# Altium integrated library Analog Devices Data Converters Analog-to-Digital Converters.IntLib: 2400 symbols (part 323 of 338)
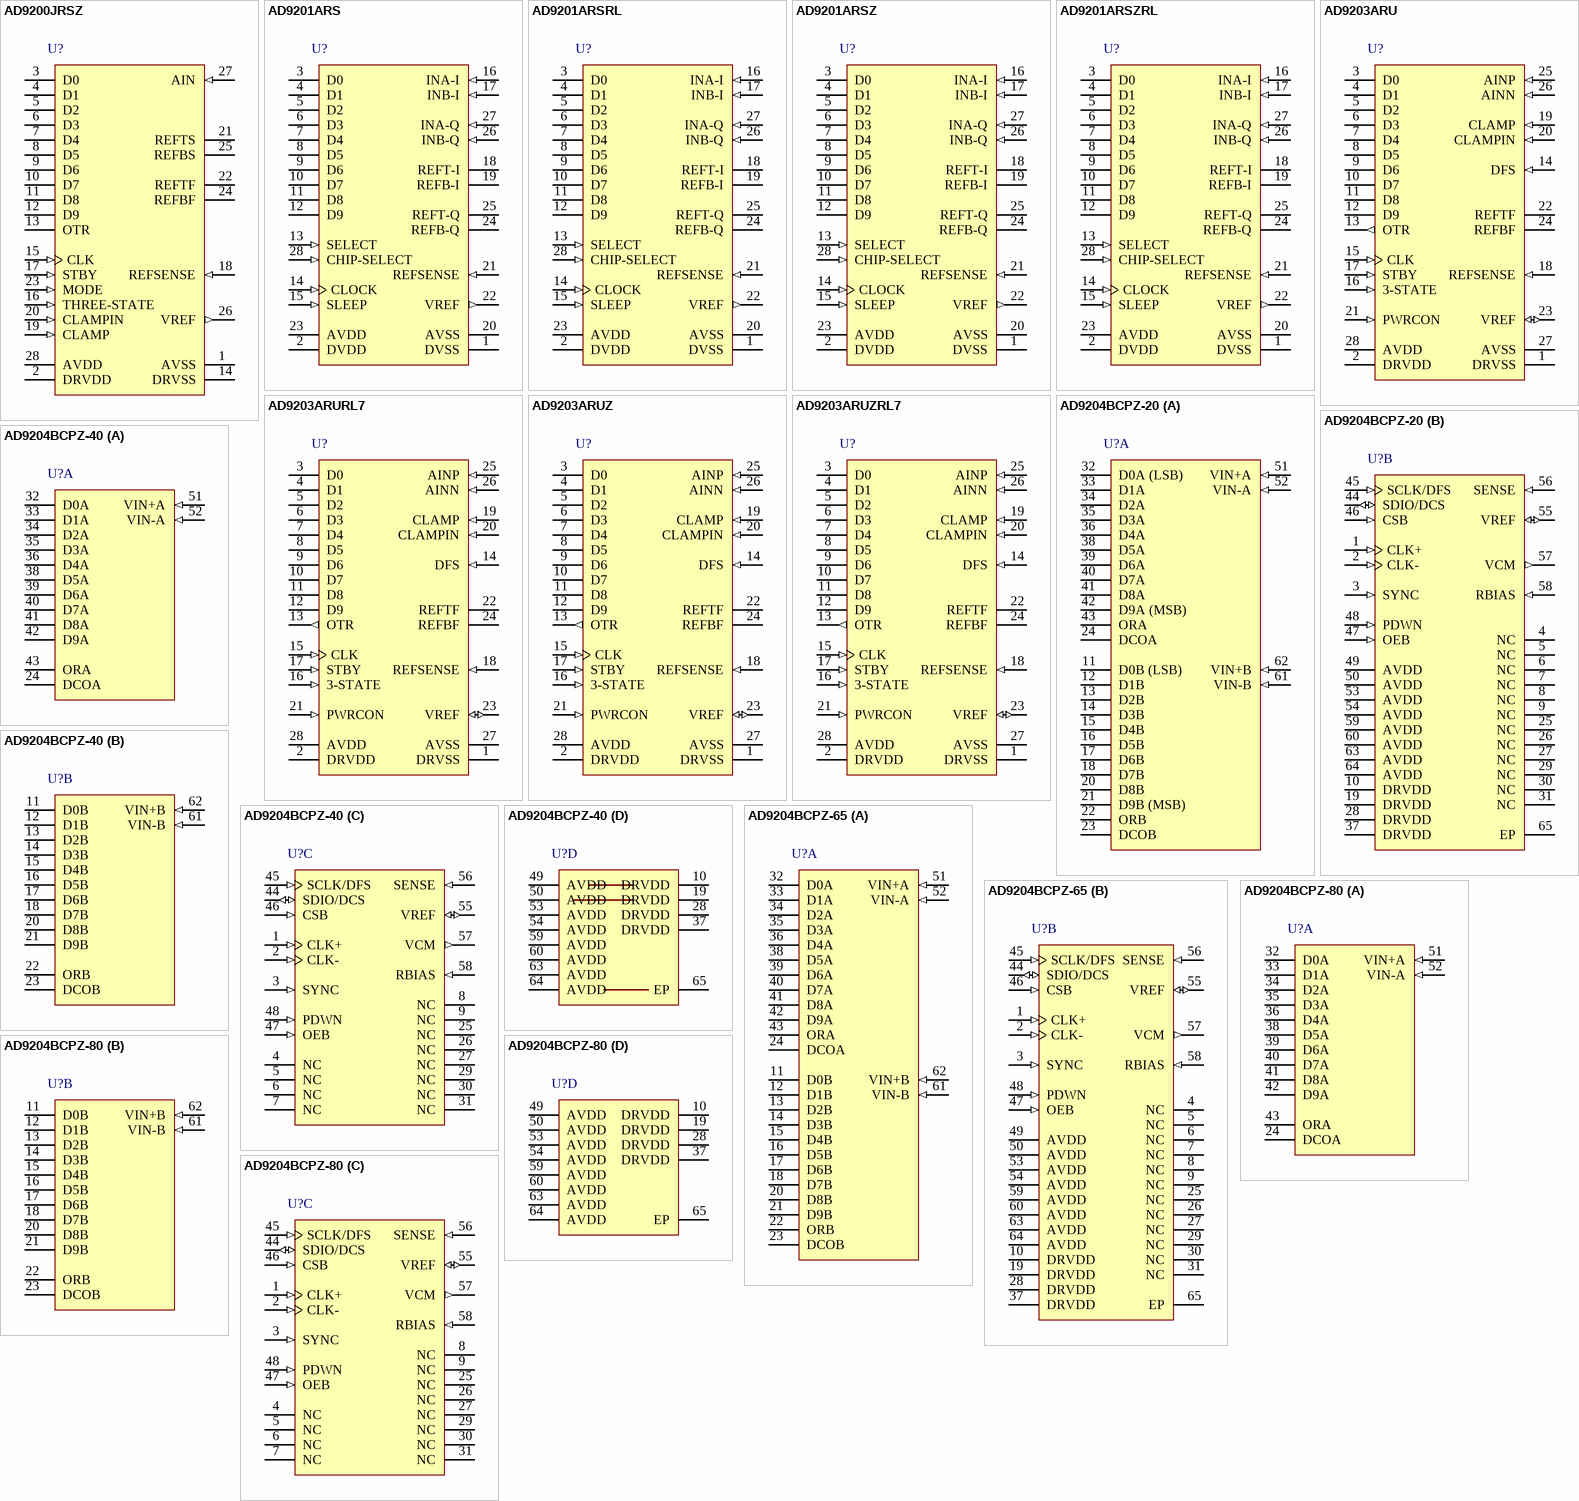
[diagram p331: symbols AD9200JRSZ to AD9204BCPZ-80]

## AD9204BCPZ-40
designator U?
Dual 10-Bit Analog-to-Digital Converter with Parallel Interface, 1.8 V, 40MSPS, -40 to +85 degC, CP-64-4, Pb-Free, Tray; Part Number: AD9204-40; Manufacturer: Analog Devices; Resolution (Bits): 10; Channels: 2; Throughput Rate (SPS): 40M; Interface: Par; DatasheetVersion: Rev.0; PackageVersion: 051007-C; PackageReference: CP-64-4; PackageDescription: 64-Lead Lead Frame Chip Scale Package [LFCSP_VQ] 9 x 9 mm Body, Very Thin Quad; RoHS: Y; Packing: Tray; Mounting Technology: Surface Mount; Code_JEDEC: MO-220-VMMD-4; ComponentLink1Description: Manufacturer URL; ComponentLink1URL: http://www.analog.com/en/index.html; ComponentLink2Description: Datasheet; ComponentLink2URL: http://www.analog.com/static/imported-files/data_sheets/AD9204.pdf; ComponentLink3Description: Package Specification; ComponentLink3URL: http://www.analog.com/static/imported-files/packages/PKG_PDF/LFCSP(CP)/CP_64_4.pdf; ComponentLink4Description: Product URL; ComponentLink4URL: http://www.analog.com/en/analog-to-digital-converters/ad-converters/ad9204/products/product.html
footprint CP-64-4_N (QFN, 64-Leads, Body 9x9mm, Pitch 0.5mm, Thermal Pad 6.2x6.2mm, IPC Medium Density)
footprint CP-64-4_L (QFN, 64-Leads, Body 9x9mm, Pitch 0.5mm, Thermal Pad 6.2x6.2mm, IPC High Density)
footprint CP-64-4_M (QFN, 64-Leads, Body 9x9mm, Pitch 0.5mm, Thermal Pad 6.2x6.2mm, IPC Low Density)
part A pins: 24 DCOA (hiz) "Channel A Data Clock Digital Output.", 32 D0A (hiz) "Channel A Digital Output", 33 D1A (hiz) "Channel A Digital Output", 34 D2A (hiz) "Channel A Digital Output.", 35 D3A (hiz) "Channel A Digital Output", 36 D4A (hiz) "Channel A Digital Output", 38 D5A (hiz) "Channel A Digital Output.", 39 D6A (hiz) "Channel A Digital Output.", 40 D7A (hiz) "Channel A Digital Output", 41 D8A (hiz) "Channel A Digital Output", 42 D9A (hiz) "Channel A Digital Output D9A = MSB.", 43 ORA (hiz) "Channel A Out-of-Range Digital Output.", 51 VIN+A (in) "Channel A Analog Inputs.", 52 VIN-A (in) "Channel A Analog Inputs."
part B pins: 11 D0B (hiz) "Channel B Digital Output.", 12 D1B (hiz) "Channel B Digital Output.", 13 D2B (hiz) "Channel B Digital Output", 14 D3B (hiz) "Channel B Digital Output.", 15 D4B (hiz) "Channel B Digital Output.", 16 D5B (hiz) "Channel B Digital Output.", 17 D6B (hiz) "Channel B Digital Output", 18 D7B (hiz) "Channel B Digital Output.", 20 D8B (hiz) "Channel B Digital Output.", 21 D9B (hiz) "Channel B Digital Output D9B = MSB.", 22 ORB (hiz) "Channel B Out-of-Range Digital Output.", 23 DCOB (hiz) "Channel B Data Clock Digital Output.", 61 VIN-B (in) "Channel B Analog Inputs.", 62 VIN+B (in) "Channel B Analog Inputs."
part C pins: 1 CLK+ (in) "Differential Encode Clock. PECL, LVDS, or 1.8 V CMOS inputs.", 2 CLK- (in) "Differential Encode Clock. PECL, LVDS, or 1.8 V CMOS inputs.", 3 SYNC (in) "Digital Input. SYNC input to clock divider. 30 kohm internal pull-down.", 4 NC "Do Not Connect.", 5 NC "Do Not Connect.", 6 NC "Do Not Connect.", 7 NC "Do Not Connect.", 8 NC "Do Not Connect.", 9 NC "Do Not Connect.", 25 NC "Do Not Connect.", 26 NC "Do Not Connect.", 27 NC "Do Not Connect.", 29 NC "Do Not Connect.", 30 NC "Do Not Connect.", 31 NC "Do Not Connect.", 44 SDIO/DCS (io) "SPI Data Input/Output (SDIO). Bidirectional SPI Data I/O in SPI mode. 30 k ohm internal pull-down in SPI mode.Duty Cycle Stabilizer (DCS). Static enable input for duty cycle stabilizer in non-SPI mode. 30 k ohm internal pull-up in (See Datasheet)", 45 SCLK/DFS (in) "SPI Clock (SCLK) Input in SPI mode. 30 k ohm internal pull-down.Data Format Select (DFS). Static control of data output format in non-SPI mode. 30 k ohm internal pull-down. DFS high = twos complement output. DFS low = offset (See Datasheet)", 46 CSB (in) "SPI Chip Select. Active low enable; 30 kohm internal pull-up.", 47 OEB (in) "Digital Input. Enable Channel A and Channel B digital outputs if low, three-state outputs if high. 30 k ohm internal pull-down.", 48 PDWN (in) "Digital Input. 30 k ohm internal pull-down.PDWN high = power-down device.PDWN low = run device, normal operation.", 55 VREF (io) "Voltage Reference Input/Output.", 56 SENSE (in) "Reference Mode Selection.", 57 VCM (out) "Analog output voltage at midsupply to set common mode of the analog inputs.", 58 RBIAS (in) "Sets Analog Current Bias. Connect to 10 k ohm (1% tolerance) resistor to ground."
part D pins: 10 DRVDD (power) "Digital Output Driver Supply (1.8 V to 3.3 V).", 19 DRVDD (power) "Digital Output Driver Supply (1.8 V to 3.3 V).", 28 DRVDD (power) "Digital Output Driver Supply (1.8 V to 3.3 V).", 37 DRVDD (power) "Digital Output Driver Supply (1.8 V to 3.3 V).", 49 AVDD (power) "1.8 V Analog Supply Pins.", 50 AVDD (power) "1.8 V Analog Supply Pins.", 53 AVDD (power) "1.8 V Analog Supply Pins.", 54 AVDD (power) "1.8 V Analog Supply Pins.", 59 AVDD (power) "1.8 V Analog Supply Pins.", 60 AVDD (power) "1.8 V Analog Supply Pins.", 63 AVDD (power) "1.8 V Analog Supply Pins.", 64 AVDD (power) "1.8 V Analog Supply Pins.", 65 EP (power) "Exposed paddle is the only ground connection for the chip. Must be connected to PCB AGND."

## AD9204BCPZ-65
designator U?
Dual 10-Bit Analog-to-Digital Converter with Parallel Interface, 1.8 V, 65MSPS, -40 to +85 degC, CP-64-4, Pb-Free, Tray; Part Number: AD9204-65; Manufacturer: Analog Devices; Resolution (Bits): 10; Channels: 2; Throughput Rate (SPS): 65M; Interface: Par; DatasheetVersion: Rev.0; PackageVersion: 051007-C; PackageReference: CP-64-4; PackageDescription: 64-Lead Lead Frame Chip Scale Package [LFCSP_VQ] 9 x 9 mm Body, Very Thin Quad; RoHS: Y; Packing: Tray; Mounting Technology: Surface Mount; Code_JEDEC: MO-220-VMMD-4; ComponentLink1Description: Manufacturer URL; ComponentLink1URL: http://www.analog.com/en/index.html; ComponentLink2Description: Datasheet; ComponentLink2URL: http://www.analog.com/static/imported-files/data_sheets/AD9204.pdf; ComponentLink3Description: Package Specification; ComponentLink3URL: http://www.analog.com/static/imported-files/packages/PKG_PDF/LFCSP(CP)/CP_64_4.pdf; ComponentLink4Description: Product URL; ComponentLink4URL: http://www.analog.com/en/analog-to-digital-converters/ad-converters/ad9204/products/product.html
footprint CP-64-4_N (QFN, 64-Leads, Body 9x9mm, Pitch 0.5mm, Thermal Pad 6.2x6.2mm, IPC Medium Density)
footprint CP-64-4_L (QFN, 64-Leads, Body 9x9mm, Pitch 0.5mm, Thermal Pad 6.2x6.2mm, IPC High Density)
footprint CP-64-4_M (QFN, 64-Leads, Body 9x9mm, Pitch 0.5mm, Thermal Pad 6.2x6.2mm, IPC Low Density)
part A pins: 11 D0B (hiz) "Channel B Digital Outputs.", 12 D1B (hiz) "Channel B Digital Outputs.", 13 D2B (hiz) "Channel B Digital Outputs.", 14 D3B (hiz) "Channel B Digital Outputs.", 15 D4B (hiz) "Channel B Digital Outputs.", 16 D5B (hiz) "Channel B Digital Outputs.", 17 D6B (hiz) "Channel B Digital Outputs.", 18 D7B (hiz) "Channel B Digital Outputs.", 20 D8B (hiz) "Channel B Digital Outputs.", 21 D9B (hiz) "Channel B Digital Outputs. D9B = MSB.", 22 ORB (hiz) "Channel B Out-of-Range Digital Output.", 23 DCOB (hiz) "Channel B Data Clock Digital Output.", 24 DCOA (hiz) "Channel A Data Clock Digital Output.", 32 D0A (hiz) "Channel A Digital Outputs.", 33 D1A (hiz) "Channel A Digital Outputs.", 34 D2A (hiz) "Channel A Digital Outputs.", 35 D3A (hiz) "Channel A Digital Outputs.", 36 D4A (hiz) "Channel A Digital Outputs.", 38 D5A (hiz) "Channel A Digital Outputs.", 39 D6A (hiz) "Channel A Digital Outputs.", 40 D7A (hiz) "Channel A Digital Outputs.", 41 D8A (hiz) "Channel A Digital Outputs.", 42 D9A (hiz) "Channel A Digital Outputs. D9A = MSB.", 43 ORA (hiz) "Channel A Out-of-Range Digital Output.", 51 VIN+A (in) "Channel A Analog Inputs.", 52 VIN-A (in) "Channel A Analog Inputs.", 61 VIN-B (in) "Channel B Analog Inputs.", 62 VIN+B (in) "Channel B Analog Inputs."
part B pins: 1 CLK+ (in) "Differential Encode Clock. PECL, LVDS, or 1.8 V CMOS inputs.", 2 CLK- (in) "Differential Encode Clock. PECL, LVDS, or 1.8 V CMOS inputs.", 3 SYNC (in) "Digital Input. SYNC input to clock divider. 30 kO internal pull-down.", 4 NC "Do Not Connect.", 5 NC "Do Not Connect.", 6 NC "Do Not Connect.", 7 NC "Do Not Connect.", 8 NC "Do Not Connect.", 9 NC "Do Not Connect.", 10 DRVDD (power) "Digital Output Driver Supply (1.8 V to 3.3 V).", 19 DRVDD (power) "Digital Output Driver Supply (1.8 V to 3.3 V).", 25 NC "Do Not Connect.", 26 NC "Do Not Connect.", 27 NC "Do Not Connect.", 28 DRVDD (power) "Digital Output Driver Supply (1.8 V to 3.3 V).", 29 NC "Do Not Connect.", 30 NC "Do Not Connect.", 31 NC "Do Not Connect.", 37 DRVDD (power) "Digital Output Driver Supply (1.8 V to 3.3 V).", 44 SDIO/DCS (io) "SPI Data Input/Output (SDIO). Bidirectional SPI Data I/O in SPI mode. 30 kO internal pull-down in SPI mode.Duty Cycle Stabilizer (DCS). Static enable input for duty cycle stabilizer in non-SPI mode. 30 kO internal pull-up in (See Datasheet)", 45 SCLK/DFS (in) "SPI Clock (SCLK) Input in SPI mode. 30 kO internal pull-down.Data Format Select (DFS). Static control of data output format in non-SPI mode. 30 kO internal pull-down. DFS high = twos complement output. DFS low = offset (See Datasheet)", 46 CSB (in) "SPI Chip Select. Active low enable; 30 kO internal pull-up.", 47 OEB (in) "Digital Input. Enable Channel A and Channel B digital outputs if low, three-state outputs if high. 30 kO internal pull-down.", 48 PDWN (in) "Digital Input. 30 kO internal pull-down.PDWN high = power-down device.PDWN low = run device, normal operation.", 49 AVDD (power) "1.8 V Analog Supply Pins.", 50 AVDD (power) "1.8 V Analog Supply Pins.", 53 AVDD (power) "1.8 V Analog Supply Pins.", 54 AVDD (power) "1.8 V Analog Supply Pins.", 55 VREF (io) "Voltage Reference Input/Output.", 56 SENSE (in) "Reference Mode Selection.", 57 VCM (out) "Analog output voltage at midsupply to set common mode of the analog inputs.", 58 RBIAS (in) "Sets Analog Current Bias. Connect to 10 kO (1% tolerance) resistor to ground.", 59 AVDD (power) "1.8 V Analog Supply Pins.", 60 AVDD (power) "1.8 V Analog Supply Pins.", 63 AVDD (power) "1.8 V Analog Supply Pins.", 64 AVDD (power) "1.8 V Analog Supply Pins.", 65 EP (power) "Exposed paddle is the only ground connection for the chip. Must be connected to PCB AGND."

## AD9204BCPZ-80
designator U?
Dual 10-Bit Analog-to-Digital Converter with Parallel Interface, 1.8 V, 80MSPS, -40 to +85 degC, CP-64-4, Pb-Free, Tray; Part Number: AD9204-80; Manufacturer: Analog Devices; Resolution (Bits): 10; Channels: 2; Throughput Rate (SPS): 80M; Interface: Par; DatasheetVersion: Rev.0; PackageVersion: 051007-C; PackageReference: CP-64-4; PackageDescription: 64-Lead Lead Frame Chip Scale Package [LFCSP_VQ] 9 x 9 mm Body, Very Thin Quad; RoHS: Y; Packing: Tray; Mounting Technology: Surface Mount; Code_JEDEC: MO-220-VMMD-4; ComponentLink1Description: Manufacturer URL; ComponentLink1URL: http://www.analog.com/en/index.html; ComponentLink2Description: Datasheet; ComponentLink2URL: http://www.analog.com/static/imported-files/data_sheets/AD9204.pdf; ComponentLink3Description: Package Specification; ComponentLink3URL: http://www.analog.com/static/imported-files/packages/PKG_PDF/LFCSP(CP)/CP_64_4.pdf; ComponentLink4Description: Product URL; ComponentLink4URL: http://www.analog.com/en/analog-to-digital-converters/ad-converters/ad9204/products/product.html
footprint CP-64-4_N (QFN, 64-Leads, Body 9x9mm, Pitch 0.5mm, Thermal Pad 6.2x6.2mm, IPC Medium Density)
footprint CP-64-4_L (QFN, 64-Leads, Body 9x9mm, Pitch 0.5mm, Thermal Pad 6.2x6.2mm, IPC High Density)
footprint CP-64-4_M (QFN, 64-Leads, Body 9x9mm, Pitch 0.5mm, Thermal Pad 6.2x6.2mm, IPC Low Density)
part A pins: 24 DCOA (hiz) "Channel A Data Clock Digital Output.", 32 D0A (hiz) "Channel A Digital Outputs.", 33 D1A (hiz) "Channel A Digital Outputs.", 34 D2A (hiz) "Channel A Digital Outputs.", 35 D3A (hiz) "Channel A Digital Outputs.", 36 D4A (hiz) "Channel A Digital Outputs.", 38 D5A (hiz) "Channel A Digital Outputs.", 39 D6A (hiz) "Channel A Digital Outputs.", 40 D7A (hiz) "Channel A Digital Outputs.", 41 D8A (hiz) "Channel A Digital Outputs.", 42 D9A (hiz) "Channel A Digital Outputs. D9A = MSB.", 43 ORA (hiz) "Channel A Out-of-Range Digital Output.", 51 VIN+A (in) "Channel A Analog Inputs.", 52 VIN-A (in) "Channel A Analog Inputs."
part B pins: 11 D0B (hiz) "Channel B Digital Outputs.", 12 D1B (hiz) "Channel B Digital Outputs.", 13 D2B (hiz) "Channel B Digital Outputs.", 14 D3B (hiz) "Channel B Digital Outputs.", 15 D4B (hiz) "Channel B Digital Outputs.", 16 D5B (hiz) "Channel B Digital Outputs.", 17 D6B (hiz) "Channel B Digital Outputs.", 18 D7B (hiz) "Channel B Digital Outputs.", 20 D8B (hiz) "Channel B Digital Outputs.", 21 D9B (hiz) "Channel B Digital Outputs. D9B=MSB", 22 ORB (hiz) "Channel B Out-of-Range Digital Output.", 23 DCOB (hiz) "Channel B Data Clock Digital Output.", 61 VIN-B (in) "Channel B Analog Inputs.", 62 VIN+B (in) "Channel B Analog Inputs."
part C pins: 1 CLK+ (in) "Differential Encode Clock. PECL, LVDS, or 1.8 V CMOS inputs.", 2 CLK- (in) "Differential Encode Clock. PECL, LVDS, or 1.8 V CMOS inputs.", 3 SYNC (in) "Digital Input. SYNC input to clock divider. 30 kO internal pull-down.", 4 NC "Do Not Connect.", 5 NC "Do Not Connect.", 6 NC "Do Not Connect.", 7 NC "Do Not Connect.", 8 NC "Do Not Connect.", 9 NC "Do Not Connect.", 25 NC "Do Not Connect.", 26 NC "Do Not Connect.", 27 NC "Do Not Connect.", 29 NC "Do Not Connect.", 30 NC "Do Not Connect.", 31 NC "Do Not Connect.", 44 SDIO/DCS (io) "SPI Data Input/Output (SDIO). Bidirectional SPI Data I/O in SPI mode. 30 kO internal pull-down in SPI mode.Duty Cycle Stabilizer (DCS). Static enable input for duty cycle stabilizer in non-SPI mode. 30 kO internal pull-up in (See Datasheet)", 45 SCLK/DFS (in) "SPI Clock (SCLK) Input in SPI mode. 30 kO internal pull-down.Data Format Select (DFS). Static control of data output format in non-SPI mode. 30 kO internal pull-down. DFS high = twos complement output. DFS low = offset (See Datasheet)", 46 CSB (in) "SPI Chip Select. Active low enable; 30 kO internal pull-up.", 47 OEB (in) "Digital Input. Enable Channel A and Channel B digital outputs if low, three-state outputs if high. 30 kO internal pull-down.", 48 PDWN (in) "Digital Input. 30 kO internal pull-down.PDWN high = power-down device.PDWN low = run device, normal operation.", 55 VREF (io) "Voltage Reference Input/Output.", 56 SENSE (in) "Reference Mode Selection.", 57 VCM (out) "Analog output voltage at midsupply to set common mode of the analog inputs.", 58 RBIAS (in) "Sets Analog Current Bias. Connect to 10 kO (1% tolerance) resistor to ground."
part D pins: 10 DRVDD (power) "Digital Output Driver Supply (1.8 V to 3.3 V).", 19 DRVDD (power) "Digital Output Driver Supply (1.8 V to 3.3 V).", 28 DRVDD (power) "Digital Output Driver Supply (1.8 V to 3.3 V).", 37 DRVDD (power) "Digital Output Driver Supply (1.8 V to 3.3 V).", 49 AVDD (power) "1.8 V Analog Supply Pins.", 50 AVDD (power) "1.8 V Analog Supply Pins.", 53 AVDD (power) "1.8 V Analog Supply Pins.", 54 AVDD (power) "1.8 V Analog Supply Pins.", 59 AVDD (power) "1.8 V Analog Supply Pins.", 60 AVDD (power) "1.8 V Analog Supply Pins.", 63 AVDD (power) "1.8 V Analog Supply Pins.", 64 AVDD (power) "1.8 V Analog Supply Pins.", 65 EP (power) "Exposed paddle is the only ground connection for the chip. Must be connected to PCB AGND."

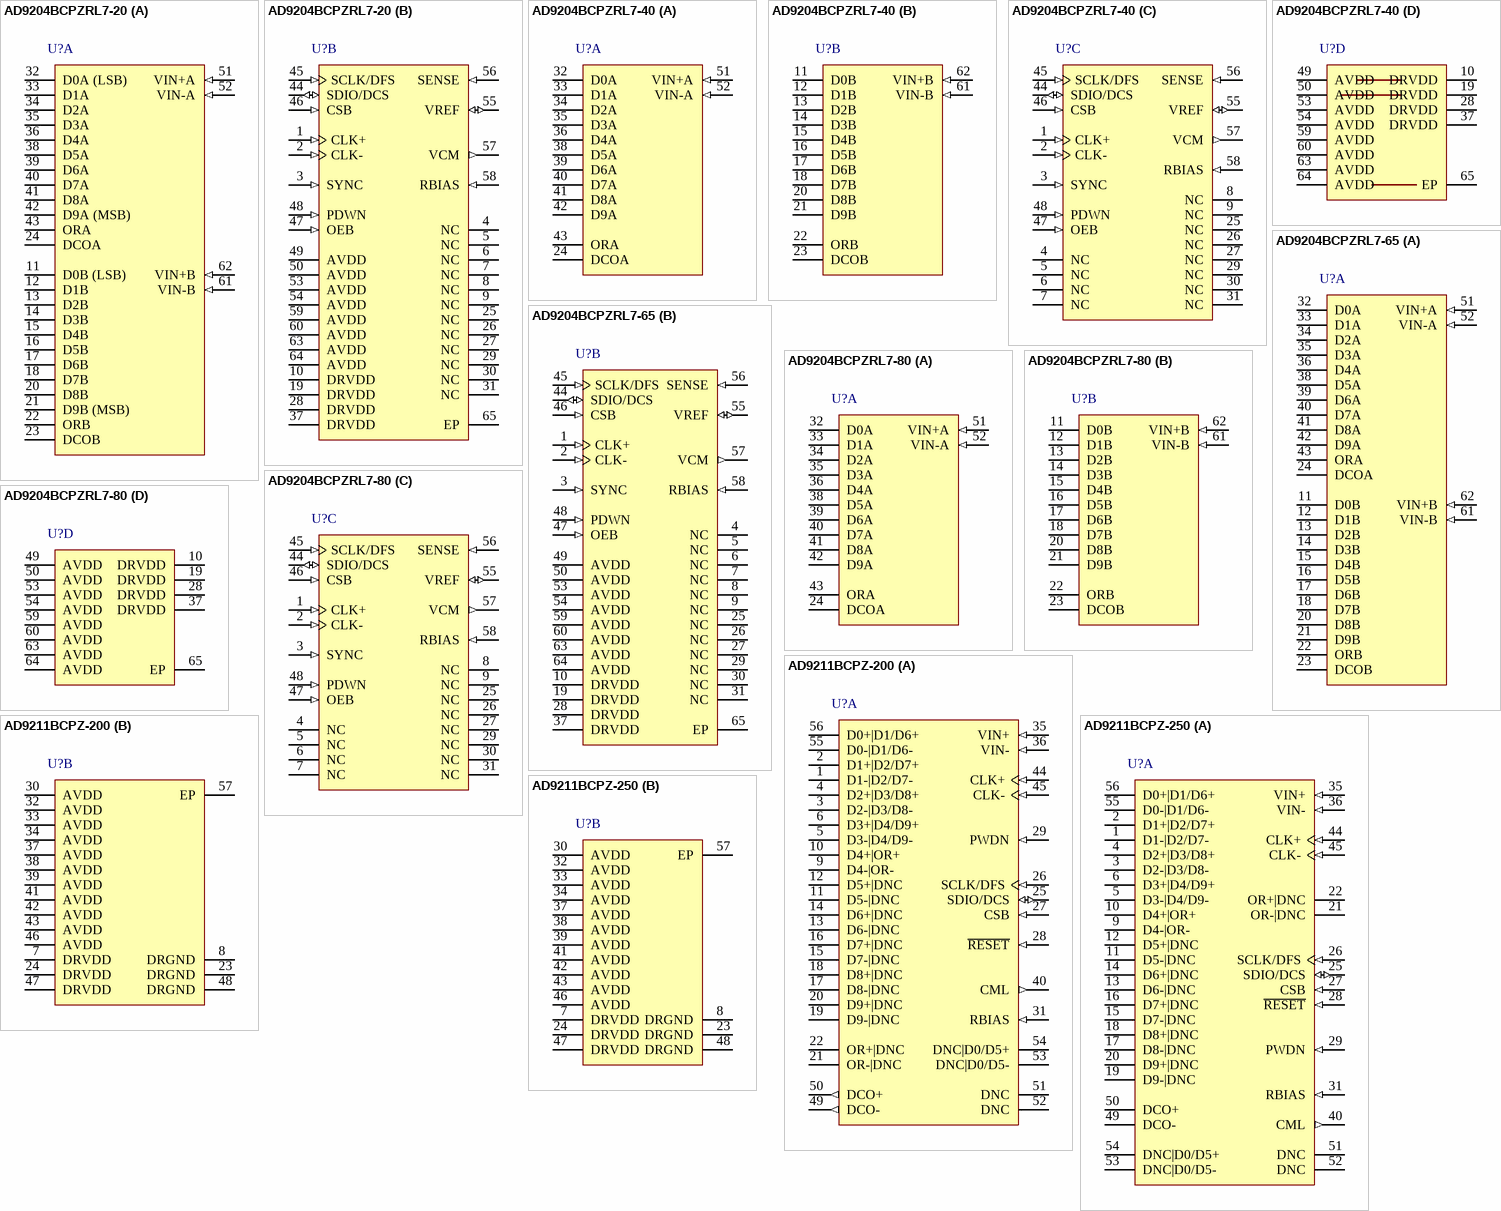
[diagram p98: symbols AD9204BCPZRL7-20 to AD9211BCPZ-250]

## AD9204BCPZRL7-20
designator U?
Dual 10-Bit Analog-to-Digital Converter with Parallel Interface, 1.8 V, 20MSPS, -40 to +85 degC, CP-64-4, Pb-Free, Reel; Part Number: AD9204-20; Manufacturer: Analog Devices; Resolution (Bits): 10; Channels: 2; Throughput Rate (SPS): 20M; Interface: Par; DatasheetVersion: Rev.0; PackageVersion: 051007-C; PackageReference: CP-64-4; PackageDescription: 64-Lead Lead Frame Chip Scale Package [LFCSP_VQ] 9 x 9 mm Body, Very Thin Quad; RoHS: Y; Packing: Reel; Mounting Technology: Surface Mount; Code_JEDEC: MO-220-VMMD-4; ComponentLink1Description: Manufacturer URL; ComponentLink1URL: http://www.analog.com/en/index.html; ComponentLink2Description: Datasheet; ComponentLink2URL: http://www.analog.com/static/imported-files/data_sheets/AD9204.pdf; ComponentLink3Description: Package Specification; ComponentLink3URL: http://www.analog.com/static/imported-files/packages/PKG_PDF/LFCSP(CP)/CP_64_4.pdf; ComponentLink4Description: Product URL; ComponentLink4URL: http://www.analog.com/en/analog-to-digital-converters/ad-converters/ad9204/products/product.html
footprint CP-64-4_N (QFN, 64-Leads, Body 9x9mm, Pitch 0.5mm, Thermal Pad 6.2x6.2mm, IPC Medium Density)
footprint CP-64-4_L (QFN, 64-Leads, Body 9x9mm, Pitch 0.5mm, Thermal Pad 6.2x6.2mm, IPC High Density)
footprint CP-64-4_M (QFN, 64-Leads, Body 9x9mm, Pitch 0.5mm, Thermal Pad 6.2x6.2mm, IPC Low Density)
part A pins: 11 D0B (LSB) (hiz) "Channel B Digital Outputs.D9B = MSB.", 12 D1B (hiz) "Channel B Digital Outputs.D9B = MSB.", 13 D2B (hiz) "Channel B Digital Outputs.D9B = MSB.", 14 D3B (hiz) "Channel B Digital Outputs.D9B = MSB.", 15 D4B (hiz) "Channel B Digital Outputs.D9B = MSB.", 16 D5B (hiz) "Channel B Digital Outputs.D9B = MSB.", 17 D6B (hiz) "Channel B Digital Outputs.D9B = MSB.", 18 D7B (hiz) "Channel B Digital Outputs.D9B = MSB.", 20 D8B (hiz) "Channel B Digital Outputs.D9B = MSB.", 21 D9B (MSB) (hiz) "Channel B Digital Outputs.D9B = MSB.", 22 ORB (hiz) "Channel B Out-of-Range Digital Output.", 23 DCOB (hiz) "Channel B Data Clock Digital Output.", 24 DCOA (hiz) "Channel A Data Clock Digital Output.", 32 D0A (LSB) (hiz) "Channel A Digital Outputs.D9A = MSB.", 33 D1A (hiz) "Channel A Digital Outputs.D9A = MSB.", 34 D2A (hiz) "Channel A Digital Outputs.D9A = MSB.", 35 D3A (hiz) "Channel A Digital Outputs.D9A = MSB.", 36 D4A (hiz) "Channel A Digital Outputs.D9A = MSB.", 38 D5A (hiz) "Channel A Digital Outputs.D9A = MSB.", 39 D6A (hiz) "Channel A Digital Outputs.D9A = MSB.", 40 D7A (hiz) "Channel A Digital Outputs.D9A = MSB.", 41 D8A (hiz) "Channel A Digital Outputs.D9A = MSB.", 42 D9A (MSB) (hiz) "Channel A Digital Outputs.D9A = MSB.", 43 ORA (hiz) "Channel A Out-of-Range Digital Output.", 51 VIN+A (in) "Channel A Analog Inputs.", 52 VIN-A (in) "Channel A Analog Inputs.", 61 VIN-B (in) "Channel B Analog Inputs.", 62 VIN+B (in) "Channel B Analog Inputs."
part B pins: 1 CLK+ (in) "Differential Encode Clock. PECL, LVDS, or 1.8 V CMOS inputs.", 2 CLK- (in) "Differential Encode Clock. PECL, LVDS, or 1.8 V CMOS inputs.", 3 SYNC (in) "Digital Input. SYNC input to clock divider. 30 k ohm internal pull-down", 4 NC "Do Not Connect.", 5 NC "Do Not Connect.", 6 NC "Do Not Connect.", 7 NC "Do Not Connect.", 8 NC "Do Not Connect.", 9 NC "Do Not Connect.", 10 DRVDD (power) "Digital Output Driver Supply (1.8 V to 3.3 V).", 19 DRVDD (power) "Digital Output Driver Supply (1.8 V to 3.3 V).", 25 NC "Do Not Connect.", 26 NC "Do Not Connect.", 27 NC "Do Not Connect.", 28 DRVDD (power) "Digital Output Driver Supply (1.8 V to 3.3 V).", 29 NC "Do Not Connect.", 30 NC "Do Not Connect.", 31 NC "Do Not Connect.", 37 DRVDD (power) "Digital Output Driver Supply (1.8 V to 3.3 V).", 44 SDIO/DCS (io) "SPI Data Input/Output (SDIO). Bidirectional SPI Data I/O in SPI mode. 30 k ohm internal pulldown in SPI mode.  Duty Cycle Stabilizer (DCS). Static enable input for duty cycle stabilizer in non-SPI mode. 30 k ohm  internal (See Datasheet)", 45 SCLK/DFS (in) "SPI Clock (SCLK) Input in SPI mode. 30 k ohm internal pull-down.Data Format Select (DFS). Static control of data output format in non-SPI mode. 30 kO internal pull-down.DFS high = twos complement output.  DFS low = offset (See Datasheet)", 46 CSB (in) "SPI Chip Select. Active low enable; 30 k ohm internal pull-up", 47 OEB (in) "Digital Input. Enable Channel A and Channel B digital outputs if low, three-state outputs if high. 30 kohm internal pull-down.", 48 PDWN (in) "Digital Input. 30 kohm internal pull-down.PDWN high = power-down device.PDWN low = run device, normal operation.", 49 AVDD (power) "1.8 V Analog Supply Pins", 50 AVDD (power) "1.8 V Analog Supply Pins", 53 AVDD (power) "1.8 V Analog Supply Pins", 54 AVDD (power) "1.8 V Analog Supply Pins", 55 VREF (io) "Voltage Reference Input/Output", 56 SENSE (in) "Reference Mode Selection", 57 VCM (out) "Analog output voltage at midsupply to set common mode of the analog inputs.", 58 RBIAS (in) "Sets Analog Current Bias. Connect to 10 kohm (1% tolerance) resistor to ground.", 59 AVDD (power) "1.8 V Analog Supply Pins", 60 AVDD (power) "1.8 V Analog Supply Pins", 63 AVDD (power) "1.8 V Analog Supply Pins", 64 AVDD (power) "1.8 V Analog Supply Pins", 65 EP (power) "Exposed paddle is the only ground connection for the chip. Must be connected to PCB AGND."

## AD9204BCPZRL7-40
designator U?
Dual 10-Bit Analog-to-Digital Converter with Parallel Interface, 1.8 V, 40MSPS, -40 to +85 degC, CP-64-4, Pb-Free, Reel; Part Number: AD9204-40; Manufacturer: Analog Devices; Resolution (Bits): 10; Channels: 2; Throughput Rate (SPS): 40M; Interface: Par; DatasheetVersion: Rev.0; PackageVersion: 051007-C; PackageReference: CP-64-4; PackageDescription: 64-Lead Lead Frame Chip Scale Package [LFCSP_VQ] 9 x 9 mm Body, Very Thin Quad; RoHS: Y; Packing: Reel; Mounting Technology: Surface Mount; Code_JEDEC: MO-220-VMMD-4; ComponentLink1Description: Manufacturer URL; ComponentLink1URL: http://www.analog.com/en/index.html; ComponentLink2Description: Datasheet; ComponentLink2URL: http://www.analog.com/static/imported-files/data_sheets/AD9204.pdf; ComponentLink3Description: Package Specification; ComponentLink3URL: http://www.analog.com/static/imported-files/packages/PKG_PDF/LFCSP(CP)/CP_64_4.pdf; ComponentLink4Description: Product URL; ComponentLink4URL: http://www.analog.com/en/analog-to-digital-converters/ad-converters/ad9204/products/product.html
footprint CP-64-4_N (QFN, 64-Leads, Body 9x9mm, Pitch 0.5mm, Thermal Pad 6.2x6.2mm, IPC Medium Density)
footprint CP-64-4_L (QFN, 64-Leads, Body 9x9mm, Pitch 0.5mm, Thermal Pad 6.2x6.2mm, IPC High Density)
footprint CP-64-4_M (QFN, 64-Leads, Body 9x9mm, Pitch 0.5mm, Thermal Pad 6.2x6.2mm, IPC Low Density)
part A pins: 24 DCOA (hiz) "Channel A Data Clock Digital Output.", 32 D0A (hiz) "Channel A Digital Output", 33 D1A (hiz) "Channel A Digital Output", 34 D2A (hiz) "Channel A Digital Output.", 35 D3A (hiz) "Channel A Digital Output", 36 D4A (hiz) "Channel A Digital Output", 38 D5A (hiz) "Channel A Digital Output.", 39 D6A (hiz) "Channel A Digital Output.", 40 D7A (hiz) "Channel A Digital Output", 41 D8A (hiz) "Channel A Digital Output", 42 D9A (hiz) "Channel A Digital Output D9A = MSB.", 43 ORA (hiz) "Channel A Out-of-Range Digital Output.", 51 VIN+A (in) "Channel A Analog Inputs.", 52 VIN-A (in) "Channel A Analog Inputs."
part B pins: 11 D0B (hiz) "Channel B Digital Output.", 12 D1B (hiz) "Channel B Digital Output.", 13 D2B (hiz) "Channel B Digital Output", 14 D3B (hiz) "Channel B Digital Output.", 15 D4B (hiz) "Channel B Digital Output.", 16 D5B (hiz) "Channel B Digital Output.", 17 D6B (hiz) "Channel B Digital Output", 18 D7B (hiz) "Channel B Digital Output.", 20 D8B (hiz) "Channel B Digital Output.", 21 D9B (hiz) "Channel B Digital Output D9B = MSB.", 22 ORB (hiz) "Channel B Out-of-Range Digital Output.", 23 DCOB (hiz) "Channel B Data Clock Digital Output.", 61 VIN-B (in) "Channel B Analog Inputs.", 62 VIN+B (in) "Channel B Analog Inputs."
part C pins: 1 CLK+ (in) "Differential Encode Clock. PECL, LVDS, or 1.8 V CMOS inputs.", 2 CLK- (in) "Differential Encode Clock. PECL, LVDS, or 1.8 V CMOS inputs.", 3 SYNC (in) "Digital Input. SYNC input to clock divider. 30 kohm internal pull-down.", 4 NC "Do Not Connect.", 5 NC "Do Not Connect.", 6 NC "Do Not Connect.", 7 NC "Do Not Connect.", 8 NC "Do Not Connect.", 9 NC "Do Not Connect.", 25 NC "Do Not Connect.", 26 NC "Do Not Connect.", 27 NC "Do Not Connect.", 29 NC "Do Not Connect.", 30 NC "Do Not Connect.", 31 NC "Do Not Connect.", 44 SDIO/DCS (io) "SPI Data Input/Output (SDIO). Bidirectional SPI Data I/O in SPI mode. 30 k ohm internal pull-down in SPI mode.Duty Cycle Stabilizer (DCS). Static enable input for duty cycle stabilizer in non-SPI mode. 30 k ohm internal pull-up in (See Datasheet)", 45 SCLK/DFS (in) "SPI Clock (SCLK) Input in SPI mode. 30 k ohm internal pull-down.Data Format Select (DFS). Static control of data output format in non-SPI mode. 30 k ohm internal pull-down. DFS high = twos complement output. DFS low = offset (See Datasheet)", 46 CSB (in) "SPI Chip Select. Active low enable; 30 kohm internal pull-up.", 47 OEB (in) "Digital Input. Enable Channel A and Channel B digital outputs if low, three-state outputs if high. 30 k ohm internal pull-down.", 48 PDWN (in) "Digital Input. 30 k ohm internal pull-down.PDWN high = power-down device.PDWN low = run device, normal operation.", 55 VREF (io) "Voltage Reference Input/Output.", 56 SENSE (in) "Reference Mode Selection.", 57 VCM (out) "Analog output voltage at midsupply to set common mode of the analog inputs.", 58 RBIAS (in) "Sets Analog Current Bias. Connect to 10 k ohm (1% tolerance) resistor to ground."
part D pins: 10 DRVDD (power) "Digital Output Driver Supply (1.8 V to 3.3 V).", 19 DRVDD (power) "Digital Output Driver Supply (1.8 V to 3.3 V).", 28 DRVDD (power) "Digital Output Driver Supply (1.8 V to 3.3 V).", 37 DRVDD (power) "Digital Output Driver Supply (1.8 V to 3.3 V).", 49 AVDD (power) "1.8 V Analog Supply Pins.", 50 AVDD (power) "1.8 V Analog Supply Pins.", 53 AVDD (power) "1.8 V Analog Supply Pins.", 54 AVDD (power) "1.8 V Analog Supply Pins.", 59 AVDD (power) "1.8 V Analog Supply Pins.", 60 AVDD (power) "1.8 V Analog Supply Pins.", 63 AVDD (power) "1.8 V Analog Supply Pins.", 64 AVDD (power) "1.8 V Analog Supply Pins.", 65 EP (power) "Exposed paddle is the only ground connection for the chip. Must be connected to PCB AGND."

## AD9204BCPZRL7-65
designator U?
Dual 10-Bit Analog-to-Digital Converter with Parallel Interface, 1.8 V, 65MSPS, -40 to +85 degC, CP-64-4, Pb-Free, Reel; Part Number: AD9204-65; Manufacturer: Analog Devices; Resolution (Bits): 10; Channels: 2; Throughput Rate (SPS): 65M; Interface: Par; DatasheetVersion: Rev.0; PackageVersion: 051007-C; PackageReference: CP-64-4; PackageDescription: 64-Lead Lead Frame Chip Scale Package [LFCSP_VQ] 9 x 9 mm Body, Very Thin Quad; RoHS: Y; Packing: Reel; Mounting Technology: Surface Mount; Code_JEDEC: MO-220-VMMD-4; ComponentLink1Description: Manufacturer URL; ComponentLink1URL: http://www.analog.com/en/index.html; ComponentLink2Description: Datasheet; ComponentLink2URL: http://www.analog.com/static/imported-files/data_sheets/AD9204.pdf; ComponentLink3Description: Package Specification; ComponentLink3URL: http://www.analog.com/static/imported-files/packages/PKG_PDF/LFCSP(CP)/CP_64_4.pdf; ComponentLink4Description: Product URL; ComponentLink4URL: http://www.analog.com/en/analog-to-digital-converters/ad-converters/ad9204/products/product.html
footprint CP-64-4_N (QFN, 64-Leads, Body 9x9mm, Pitch 0.5mm, Thermal Pad 6.2x6.2mm, IPC Medium Density)
footprint CP-64-4_L (QFN, 64-Leads, Body 9x9mm, Pitch 0.5mm, Thermal Pad 6.2x6.2mm, IPC High Density)
footprint CP-64-4_M (QFN, 64-Leads, Body 9x9mm, Pitch 0.5mm, Thermal Pad 6.2x6.2mm, IPC Low Density)
part A pins: 11 D0B (hiz) "Channel B Digital Outputs.", 12 D1B (hiz) "Channel B Digital Outputs.", 13 D2B (hiz) "Channel B Digital Outputs.", 14 D3B (hiz) "Channel B Digital Outputs.", 15 D4B (hiz) "Channel B Digital Outputs.", 16 D5B (hiz) "Channel B Digital Outputs.", 17 D6B (hiz) "Channel B Digital Outputs.", 18 D7B (hiz) "Channel B Digital Outputs.", 20 D8B (hiz) "Channel B Digital Outputs.", 21 D9B (hiz) "Channel B Digital Outputs. D9B = MSB.", 22 ORB (hiz) "Channel B Out-of-Range Digital Output.", 23 DCOB (hiz) "Channel B Data Clock Digital Output.", 24 DCOA (hiz) "Channel A Data Clock Digital Output.", 32 D0A (hiz) "Channel A Digital Outputs.", 33 D1A (hiz) "Channel A Digital Outputs.", 34 D2A (hiz) "Channel A Digital Outputs.", 35 D3A (hiz) "Channel A Digital Outputs.", 36 D4A (hiz) "Channel A Digital Outputs.", 38 D5A (hiz) "Channel A Digital Outputs.", 39 D6A (hiz) "Channel A Digital Outputs.", 40 D7A (hiz) "Channel A Digital Outputs.", 41 D8A (hiz) "Channel A Digital Outputs.", 42 D9A (hiz) "Channel A Digital Outputs. D9A = MSB.", 43 ORA (hiz) "Channel A Out-of-Range Digital Output.", 51 VIN+A (in) "Channel A Analog Inputs.", 52 VIN-A (in) "Channel A Analog Inputs.", 61 VIN-B (in) "Channel B Analog Inputs.", 62 VIN+B (in) "Channel B Analog Inputs."
part B pins: 1 CLK+ (in) "Differential Encode Clock. PECL, LVDS, or 1.8 V CMOS inputs.", 2 CLK- (in) "Differential Encode Clock. PECL, LVDS, or 1.8 V CMOS inputs.", 3 SYNC (in) "Digital Input. SYNC input to clock divider. 30 kO internal pull-down.", 4 NC "Do Not Connect.", 5 NC "Do Not Connect.", 6 NC "Do Not Connect.", 7 NC "Do Not Connect.", 8 NC "Do Not Connect.", 9 NC "Do Not Connect.", 10 DRVDD (power) "Digital Output Driver Supply (1.8 V to 3.3 V).", 19 DRVDD (power) "Digital Output Driver Supply (1.8 V to 3.3 V).", 25 NC "Do Not Connect.", 26 NC "Do Not Connect.", 27 NC "Do Not Connect.", 28 DRVDD (power) "Digital Output Driver Supply (1.8 V to 3.3 V).", 29 NC "Do Not Connect.", 30 NC "Do Not Connect.", 31 NC "Do Not Connect.", 37 DRVDD (power) "Digital Output Driver Supply (1.8 V to 3.3 V).", 44 SDIO/DCS (io) "SPI Data Input/Output (SDIO). Bidirectional SPI Data I/O in SPI mode. 30 kO internal pull-down in SPI mode.Duty Cycle Stabilizer (DCS). Static enable input for duty cycle stabilizer in non-SPI mode. 30 kO internal pull-up in (See Datasheet)", 45 SCLK/DFS (in) "SPI Clock (SCLK) Input in SPI mode. 30 kO internal pull-down.Data Format Select (DFS). Static control of data output format in non-SPI mode. 30 kO internal pull-down. DFS high = twos complement output. DFS low = offset (See Datasheet)", 46 CSB (in) "SPI Chip Select. Active low enable; 30 kO internal pull-up.", 47 OEB (in) "Digital Input. Enable Channel A and Channel B digital outputs if low, three-state outputs if high. 30 kO internal pull-down.", 48 PDWN (in) "Digital Input. 30 kO internal pull-down.PDWN high = power-down device.PDWN low = run device, normal operation.", 49 AVDD (power) "1.8 V Analog Supply Pins.", 50 AVDD (power) "1.8 V Analog Supply Pins.", 53 AVDD (power) "1.8 V Analog Supply Pins.", 54 AVDD (power) "1.8 V Analog Supply Pins.", 55 VREF (io) "Voltage Reference Input/Output.", 56 SENSE (in) "Reference Mode Selection.", 57 VCM (out) "Analog output voltage at midsupply to set common mode of the analog inputs.", 58 RBIAS (in) "Sets Analog Current Bias. Connect to 10 kO (1% tolerance) resistor to ground.", 59 AVDD (power) "1.8 V Analog Supply Pins.", 60 AVDD (power) "1.8 V Analog Supply Pins.", 63 AVDD (power) "1.8 V Analog Supply Pins.", 64 AVDD (power) "1.8 V Analog Supply Pins.", 65 EP (power) "Exposed paddle is the only ground connection for the chip. Must be connected to PCB AGND."

## AD9204BCPZRL7-80
designator U?
Dual 10-Bit Analog-to-Digital Converter with Parallel Interface, 1.8 V, 80MSPS, -40 to +85 degC, CP-64-4, Pb-Free, Reel; Part Number: AD9204-80; Manufacturer: Analog Devices; Resolution (Bits): 10; Channels: 2; Throughput Rate (SPS): 80M; Interface: Par; DatasheetVersion: Rev.0; PackageVersion: 051007-C; PackageReference: CP-64-4; PackageDescription: 64-Lead Lead Frame Chip Scale Package [LFCSP_VQ] 9 x 9 mm Body, Very Thin Quad; RoHS: Y; Packing: Reel; Mounting Technology: Surface Mount; Code_JEDEC: MO-220-VMMD-4; ComponentLink1Description: Manufacturer URL; ComponentLink1URL: http://www.analog.com/en/index.html; ComponentLink2Description: Datasheet; ComponentLink2URL: http://www.analog.com/static/imported-files/data_sheets/AD9204.pdf; ComponentLink3Description: Package Specification; ComponentLink3URL: http://www.analog.com/static/imported-files/packages/PKG_PDF/LFCSP(CP)/CP_64_4.pdf; ComponentLink4Description: Product URL; ComponentLink4URL: http://www.analog.com/en/analog-to-digital-converters/ad-converters/ad9204/products/product.html
footprint CP-64-4_N (QFN, 64-Leads, Body 9x9mm, Pitch 0.5mm, Thermal Pad 6.2x6.2mm, IPC Medium Density)
footprint CP-64-4_L (QFN, 64-Leads, Body 9x9mm, Pitch 0.5mm, Thermal Pad 6.2x6.2mm, IPC High Density)
footprint CP-64-4_M (QFN, 64-Leads, Body 9x9mm, Pitch 0.5mm, Thermal Pad 6.2x6.2mm, IPC Low Density)
part A pins: 24 DCOA (hiz) "Channel A Data Clock Digital Output.", 32 D0A (hiz) "Channel A Digital Outputs.", 33 D1A (hiz) "Channel A Digital Outputs.", 34 D2A (hiz) "Channel A Digital Outputs.", 35 D3A (hiz) "Channel A Digital Outputs.", 36 D4A (hiz) "Channel A Digital Outputs.", 38 D5A (hiz) "Channel A Digital Outputs.", 39 D6A (hiz) "Channel A Digital Outputs.", 40 D7A (hiz) "Channel A Digital Outputs.", 41 D8A (hiz) "Channel A Digital Outputs.", 42 D9A (hiz) "Channel A Digital Outputs. D9A = MSB.", 43 ORA (hiz) "Channel A Out-of-Range Digital Output.", 51 VIN+A (in) "Channel A Analog Inputs.", 52 VIN-A (in) "Channel A Analog Inputs."
part B pins: 11 D0B (hiz) "Channel B Digital Outputs.", 12 D1B (hiz) "Channel B Digital Outputs.", 13 D2B (hiz) "Channel B Digital Outputs.", 14 D3B (hiz) "Channel B Digital Outputs.", 15 D4B (hiz) "Channel B Digital Outputs.", 16 D5B (hiz) "Channel B Digital Outputs.", 17 D6B (hiz) "Channel B Digital Outputs.", 18 D7B (hiz) "Channel B Digital Outputs.", 20 D8B (hiz) "Channel B Digital Outputs.", 21 D9B (hiz) "Channel B Digital Outputs. D9B=MSB", 22 ORB (hiz) "Channel B Out-of-Range Digital Output.", 23 DCOB (hiz) "Channel B Data Clock Digital Output.", 61 VIN-B (in) "Channel B Analog Inputs.", 62 VIN+B (in) "Channel B Analog Inputs."
part C pins: 1 CLK+ (in) "Differential Encode Clock. PECL, LVDS, or 1.8 V CMOS inputs.", 2 CLK- (in) "Differential Encode Clock. PECL, LVDS, or 1.8 V CMOS inputs.", 3 SYNC (in) "Digital Input. SYNC input to clock divider. 30 kO internal pull-down.", 4 NC "Do Not Connect.", 5 NC "Do Not Connect.", 6 NC "Do Not Connect.", 7 NC "Do Not Connect.", 8 NC "Do Not Connect.", 9 NC "Do Not Connect.", 25 NC "Do Not Connect.", 26 NC "Do Not Connect.", 27 NC "Do Not Connect.", 29 NC "Do Not Connect.", 30 NC "Do Not Connect.", 31 NC "Do Not Connect.", 44 SDIO/DCS (io) "SPI Data Input/Output (SDIO). Bidirectional SPI Data I/O in SPI mode. 30 kO internal pull-down in SPI mode.Duty Cycle Stabilizer (DCS). Static enable input for duty cycle stabilizer in non-SPI mode. 30 kO internal pull-up in (See Datasheet)", 45 SCLK/DFS (in) "SPI Clock (SCLK) Input in SPI mode. 30 kO internal pull-down.Data Format Select (DFS). Static control of data output format in non-SPI mode. 30 kO internal pull-down. DFS high = twos complement output. DFS low = offset (See Datasheet)", 46 CSB (in) "SPI Chip Select. Active low enable; 30 kO internal pull-up.", 47 OEB (in) "Digital Input. Enable Channel A and Channel B digital outputs if low, three-state outputs if high. 30 kO internal pull-down.", 48 PDWN (in) "Digital Input. 30 kO internal pull-down.PDWN high = power-down device.PDWN low = run device, normal operation.", 55 VREF (io) "Voltage Reference Input/Output.", 56 SENSE (in) "Reference Mode Selection.", 57 VCM (out) "Analog output voltage at midsupply to set common mode of the analog inputs.", 58 RBIAS (in) "Sets Analog Current Bias. Connect to 10 kO (1% tolerance) resistor to ground."
part D pins: 10 DRVDD (power) "Digital Output Driver Supply (1.8 V to 3.3 V).", 19 DRVDD (power) "Digital Output Driver Supply (1.8 V to 3.3 V).", 28 DRVDD (power) "Digital Output Driver Supply (1.8 V to 3.3 V).", 37 DRVDD (power) "Digital Output Driver Supply (1.8 V to 3.3 V).", 49 AVDD (power) "1.8 V Analog Supply Pins.", 50 AVDD (power) "1.8 V Analog Supply Pins.", 53 AVDD (power) "1.8 V Analog Supply Pins.", 54 AVDD (power) "1.8 V Analog Supply Pins.", 59 AVDD (power) "1.8 V Analog Supply Pins.", 60 AVDD (power) "1.8 V Analog Supply Pins.", 63 AVDD (power) "1.8 V Analog Supply Pins.", 64 AVDD (power) "1.8 V Analog Supply Pins.", 65 EP (power) "Exposed paddle is the only ground connection for the chip. Must be connected to PCB AGND."

## AD9211BCPZ-200
designator U?
Single 10-Bit Analog-to-Digital Converter with LVDS, Parallel Interface, 1.8 V, 200MSPS, -40 to +85 degC, CP-56-2, Pb-Free, Tray; Part Number: AD9211-200; Manufacturer: Analog Devices; Resolution (Bits): 10; Channels: 1; Throughput Rate (SPS): 200M; DatasheetVersion: Rev.0; PackageVersion: 112805-0; PackageReference: CP-56-2; PackageDescription: 56-Lead Lead Frame Chip Scale Package [LFCSP_VQ] 8 x 8 mm Body, Very Thin Quad; Interface: LVDS, Par; RoHS: Y; Packing: Tray; Mounting Technology: Surface Mount; Code_JEDEC: MO-220-VLLD-2; ComponentLink1Description: Manufacturer URL; ComponentLink1URL: http://www.analog.com/en/index.html; ComponentLink2Description: Datasheet; ComponentLink2URL: http://www.analog.com/static/imported-files/data_sheets/AD9211.pdf; ComponentLink3Description: Package Specification; ComponentLink3URL: http://www.analog.com/static/imported-files/packages/PKG_PDF/LFCSP(CP)/CP-56/CP_56_2.pdf; ComponentLink4Description: Product URL; ComponentLink4URL: http://www.analog.com/en/analog-to-digital-converters/ad-converters/ad9211/products/product.html
footprint CP-56-2_N (QFN, 56-Leads, Body 8x8mm, Pitch 0.5mm, Thermal Pad 4.3x4.3mm, IPC Medium Density)
footprint CP-56-2_L (QFN, 56-Leads, Body 8x8mm, Pitch 0.5mm, Thermal Pad 4.3x4.3mm, IPC High Density)
footprint CP-56-2_M (QFN, 56-Leads, Body 8x8mm, Pitch 0.5mm, Thermal Pad 4.3x4.3mm, IPC Low Density)
part A pins: 1 D1-|D2/D7- (hiz), 2 D1+|D2/D7+ (hiz), 3 D2-|D3/D8- (hiz), 4 D2+|D3/D8+ (hiz), 5 D3-|D4/D9- (hiz), 6 D3+|D4/D9+ (hiz), 9 D4-|OR- (hiz), 10 D4+|OR+ (hiz), 11 D5-|DNC (hiz), 12 D5+|DNC (hiz), 13 D6-|DNC (hiz), 14 D6+|DNC (hiz), 15 D7-|DNC (hiz), 16 D7+|DNC (hiz), 17 D8-|DNC (hiz), 18 D8+|DNC (hiz), 19 D9-|DNC (hiz), 20 D9+|DNC (hiz), 21 OR-|DNC (hiz), 22 OR+|DNC (hiz), 25 SDIO/DCS (io) "Serial Port Interface (SPI) Data Input/Output (Serial Port Mode); Duty Cycle Stabilizer Select (External Pin Mode).", 26 SCLK/DFS (in) "Serial Port Interface Clock (Serial Port Mode); Data Format Select Pin (External Pin Mode).", 27 CSB (in) "Serial Port Chip Select (Active Low).", 28 ~{RESET} (in) "CMOS-Compatible Chip Reset (Active Low).", 29 PWDN (in) "Chip Power-Down.", 31 RBIAS (in) "Set Pin for Chip Bias Current. (Place 1% 10 kO resistor terminated to ground.) Nominally 0.5 V.", 35 VIN+ (in) "Analog Input--True.", 36 VIN- (in) "Analog Input--Complement", 40 CML (out) "Common-Mode Output Pin. Enabled through the SPI, this pin provides a reference for the optimized internal bias voltage for VIN+/VIN-.", 44 CLK+ (in) "Clock Input--True.", 45 CLK- (in) "Clock Input--Complement.", 49 DCO- (out) "Data Clock Output--Complement.", 50 DCO+ (out) "Data Clock Output--True.", 51 DNC "Do Not Connect.", 52 DNC "Do Not Connect.", 53 DNC|D0/D5- (hiz), 54 DNC|D0/D5+ (hiz), 55 D0-|D1/D6- (hiz), 56 D0+|D1/D6+ (hiz)
part B pins: 7 DRVDD (power) "1.8 V Digital Output Supply.", 8 DRGND (power) "Digital Output Ground.", 23 DRGND (power) "Digital Output Ground.", 24 DRVDD (power) "1.8 V Digital Output Supply.", 30 AVDD (power) "1.8 V Analog Supply.", 32 AVDD (power) "1.8 V Analog Supply.", 33 AVDD (power) "1.8 V Analog Supply.", 34 AVDD (power) "1.8 V Analog Supply.", 37 AVDD (power) "1.8 V Analog Supply.", 38 AVDD (power) "1.8 V Analog Supply.", 39 AVDD (power) "1.8 V Analog Supply.", 41 AVDD (power) "1.8 V Analog Supply.", 42 AVDD (power) "1.8 V Analog Supply.", 43 AVDD (power) "1.8 V Analog Supply.", 46 AVDD (power) "1.8 V Analog Supply.", 47 DRVDD (power) "1.8 V Digital Output Supply", 48 DRGND (power) "Digital Output Ground.", 57 EP (power) "Analog Ground."

## AD9211BCPZ-250
designator U?
Single 10-Bit Analog-to-Digital Converter with LVDS, Parallel Interface, 1.8 V, 250MSPS, -40 to +85 degC, CP-56-2, Pb-Free, Tray; Part Number: AD9211-250; Manufacturer: Analog Devices; Resolution (Bits): 10; Channels: 1; Throughput Rate (SPS): 200M; DatasheetVersion: Rev.0; PackageVersion: 112805-0; PackageReference: CP-56-2; PackageDescription: 56-Lead Lead Frame Chip Scale Package [LFCSP_VQ] 8 x 8 mm Body, Very Thin Quad; Interface: LVDS, Par; RoHS: Y; Packing: Tray; Mounting Technology: Surface Mount; Code_JEDEC: MO-220-VLLD-2; ComponentLink1Description: Manufacturer URL; ComponentLink1URL: http://www.analog.com/en/index.html; ComponentLink2Description: Datasheet; ComponentLink2URL: http://www.analog.com/static/imported-files/data_sheets/AD9211.pdf; ComponentLink3Description: Package Specification; ComponentLink3URL: http://www.analog.com/static/imported-files/packages/PKG_PDF/LFCSP(CP)/CP-56/CP_56_2.pdf; ComponentLink4Description: Product URL; ComponentLink4URL: http://www.analog.com/en/analog-to-digital-converters/ad-converters/ad9211/products/product.html
footprint CP-56-2_N (QFN, 56-Leads, Body 8x8mm, Pitch 0.5mm, Thermal Pad 4.3x4.3mm, IPC Medium Density)
footprint CP-56-2_L (QFN, 56-Leads, Body 8x8mm, Pitch 0.5mm, Thermal Pad 4.3x4.3mm, IPC High Density)
footprint CP-56-2_M (QFN, 56-Leads, Body 8x8mm, Pitch 0.5mm, Thermal Pad 4.3x4.3mm, IPC Low Density)
part A pins: 1 D1-|D2/D7- (hiz), 2 D1+|D2/D7+ (hiz), 3 D2-|D3/D8- (hiz), 4 D2+|D3/D8+ (hiz), 5 D3-|D4/D9- (hiz), 6 D3+|D4/D9+ (hiz), 9 D4-|OR- (hiz), 10 D4+|OR+ (hiz), 11 D5-|DNC (hiz), 12 D5+|DNC (hiz), 13 D6-|DNC (hiz), 14 D6+|DNC (hiz), 15 D7-|DNC (hiz), 16 D7+|DNC (hiz), 17 D8-|DNC (hiz), 18 D8+|DNC (hiz), 19 D9-|DNC (hiz), 20 D9+|DNC (hiz), 21 OR-|DNC (hiz), 22 OR+|DNC (hiz), 25 SDIO/DCS (io) "Serial Port Interface (SPI) Data Input/Output (Serial Port Mode); Duty Cycle Stabilizer Select (External Pin Mode).", 26 SCLK/DFS (in) "Serial Port Interface Clock (Serial Port Mode); Data Format Select Pin (External Pin Mode).", 27 CSB (in) "Serial Port Chip Select (Active Low).", 28 ~{RESET} (in) "CMOS-Compatible Chip Reset (Active Low).", 29 PWDN (in) "Chip Power-Down.", 31 RBIAS (in) "Set Pin for Chip Bias Current. (Place 1% 10 kO resistor terminated to ground.) Nominally 0.5 V.", 35 VIN+ (in) "Analog Input-True.", 36 VIN- (in) "Analog Input-Complement.", 40 CML (out) "Common-Mode Output Pin. Enabled through the SPI, this pin provides a reference for the optimized internal bias voltage for VIN+/VIN-.", 44 CLK+ (in) "Clock Input-True.", 45 CLK- (in) "Clock Input-Complement.", 49 DCO- (hiz) "Data Clock Output--Complement.", 50 DCO+ (hiz) "Data Clock Output--True.", 51 DNC "Do Not Connect.", 52 DNC "Do Not Connect.", 53 DNC|D0/D5- (hiz), 54 DNC|D0/D5+ (hiz), 55 D0-|D1/D6- (hiz), 56 D0+|D1/D6+ (hiz)
part B pins: 7 DRVDD (power) "1.8 V Digital Output Supply", 8 DRGND (power) "Digital Output Ground.", 23 DRGND (power) "Digital Output Ground.", 24 DRVDD (power) "1.8 V Digital Output Supply", 30 AVDD (power) "1.8 V Analog Supply.", 32 AVDD (power) "1.8 V Analog Supply.", 33 AVDD (power) "1.8 V Analog Supply.", 34 AVDD (power) "1.8 V Analog Supply.", 37 AVDD (power) "1.8 V Analog Supply.", 38 AVDD (power) "1.8 V Analog Supply.", 39 AVDD (power) "1.8 V Analog Supply.", 41 AVDD (power) "1.8 V Analog Supply.", 42 AVDD (power) "1.8 V Analog Supply.", 43 AVDD (power) "1.8 V Analog Supply.", 46 AVDD (power) "1.8 V Analog Supply.", 47 DRVDD (power) "1.8 V Digital Output Supply", 48 DRGND (power) "Digital Output Ground.", 57 EP (power) "Analog Ground."

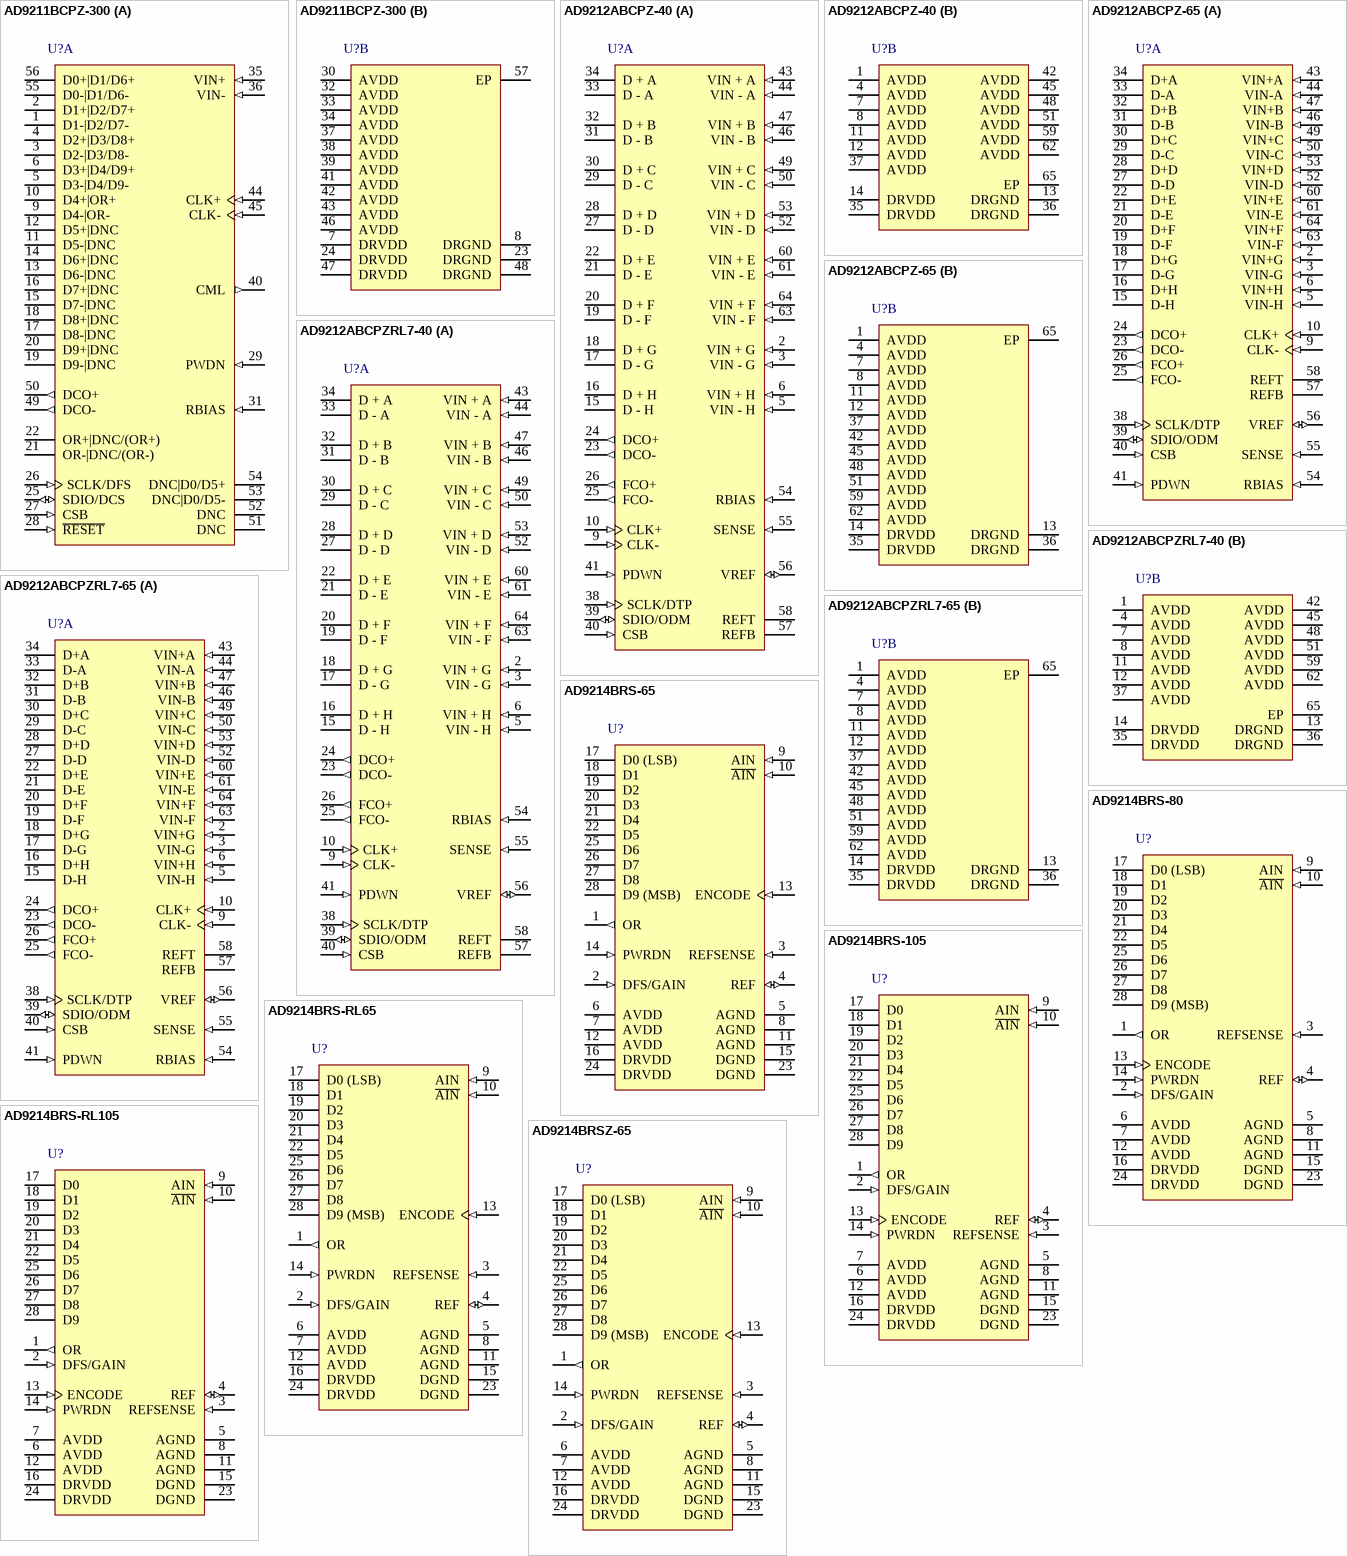
[diagram p99: symbols AD9211BCPZ-300 to AD9214BRSZ-65]

## AD9211BCPZ-300
designator U?
Single 10-Bit Analog-to-Digital Converter with LVDS, Parallel Interface, 1.8 V 300MSPS, -40 to +85 degC, CP-56-2, Pb-Free, Tray; Part Number: AD9211-300; Manufacturer: Analog Devices; Resolution (Bits): 10; Channels: 1; Throughput Rate (SPS): 300M; DatasheetVersion: Rev.0; PackageVersion: 112805-0; PackageReference: CP-56-2; PackageDescription: 56-Lead Lead Frame Chip Scale Package [LFCSP_VQ] 8 x 8 mm Body, Very Thin Quad; Interface: LVDS, Par; RoHS: Y; Packing: Tray; Mounting Technology: Surface Mount; Code_JEDEC: MO-220-VLLD-2; ComponentLink1Description: Manufacturer URL; ComponentLink1URL: http://www.analog.com/en/index.html; ComponentLink2Description: Datasheet; ComponentLink2URL: http://www.analog.com/static/imported-files/data_sheets/AD9211.pdf; ComponentLink3Description: Package Specification; ComponentLink3URL: http://www.analog.com/static/imported-files/packages/PKG_PDF/LFCSP(CP)/CP-56/CP_56_2.pdf; ComponentLink4Description: Product URL; ComponentLink4URL: http://www.analog.com/en/analog-to-digital-converters/ad-converters/ad9211/products/product.html
footprint CP-56-2_N (QFN, 56-Leads, Body 8x8mm, Pitch 0.5mm, Thermal Pad 4.3x4.3mm, IPC Medium Density)
footprint CP-56-2_L (QFN, 56-Leads, Body 8x8mm, Pitch 0.5mm, Thermal Pad 4.3x4.3mm, IPC High Density)
footprint CP-56-2_M (QFN, 56-Leads, Body 8x8mm, Pitch 0.5mm, Thermal Pad 4.3x4.3mm, IPC Low Density)
part A pins: 1 D1-|D2/D7- (hiz), 2 D1+|D2/D7+ (hiz), 3 D2-|D3/D8- (hiz), 4 D2+|D3/D8+ (hiz), 5 D3-|D4/D9- (hiz), 6 D3+|D4/D9+ (hiz), 9 D4-|OR- (hiz), 10 D4+|OR+ (hiz), 11 D5-|DNC (hiz), 12 D5+|DNC (hiz), 13 D6-|DNC (hiz), 14 D6+|DNC (hiz), 15 D7-|DNC (hiz), 16 D7+|DNC (hiz), 17 D8-|DNC (hiz), 18 D8+|DNC (hiz), 19 D9-|DNC (hiz), 20 D9+|DNC (hiz), 21 OR-|DNC/(OR-) (hiz), 22 OR+|DNC/(OR+) (hiz), 25 SDIO/DCS (io) "Serial Port Interface (SPI) Data Input/Output (Serial Port Mode); Duty Cycle Stabilizer Select (External Pin Mode).", 26 SCLK/DFS (in) "Serial Port Interface Clock (Serial Port Mode); Data Format Select Pin (External Pin Mode).", 27 CSB (in) "Serial Port Chip Select (Active Low).", 28 ~{RESET} (in) "CMOS-Compatible Chip Reset (Active Low).", 29 PWDN (in) "Chip Power-Down.", 31 RBIAS (in) "Set Pin for Chip Bias Current. (Place 1% 10 kO resistor terminated to ground.) Nominally 0.5 V.", 35 VIN+ (in) "Analog Input--True.", 36 VIN- (in) "Analog Input--Complement.", 40 CML (out) "Common-Mode Output Pin. Enabled through the SPI, this pin provides a reference for the optimized internal bias voltage for VIN+/VIN-.", 44 CLK+ (in) "Clock Input--True.", 45 CLK- (in) "Clock Input--Complement.", 49 DCO- (out) "Data Clock Output--Complement.", 50 DCO+ (out) "Data Clock Output--True.", 51 DNC "Do Not Connect.", 52 DNC "Do Not Connect.", 53 DNC|D0/D5- (hiz), 54 DNC|D0/D5+ (hiz), 55 D0-|D1/D6- (hiz), 56 D0+|D1/D6+ (hiz)
part B pins: 7 DRVDD (power) "1.8 V Digital Output Supply.", 8 DRGND (power) "Digital Output Ground.", 23 DRGND (power) "Digital Output Ground.", 24 DRVDD (power) "1.8 V Digital Output Supply.", 30 AVDD (power) "1.8 V Analog Supply.", 32 AVDD (power) "1.8 V Analog Supply.", 33 AVDD (power) "1.8 V Analog Supply.", 34 AVDD (power) "1.8 V Analog Supply.", 37 AVDD (power) "1.8 V Analog Supply.", 38 AVDD (power) "1.8 V Analog Supply.", 39 AVDD (power) "1.8 V Analog Supply.", 41 AVDD (power) "1.8 V Analog Supply.", 42 AVDD (power) "1.8 V Analog Supply.", 43 AVDD (power) "1.8 V Analog Supply.", 46 AVDD (power) "1.8 V Analog Supply.", 47 DRVDD (power) "1.8 V Digital Output Supply.", 48 DRGND (power) "Digital Output Ground.", 57 EP (power) "Analog Ground."